# Altium schematic symbol library sn75lvds83b.SchLib: 1 symbol
Pins are listed as number, name and electrical type; pins without a type are passive.

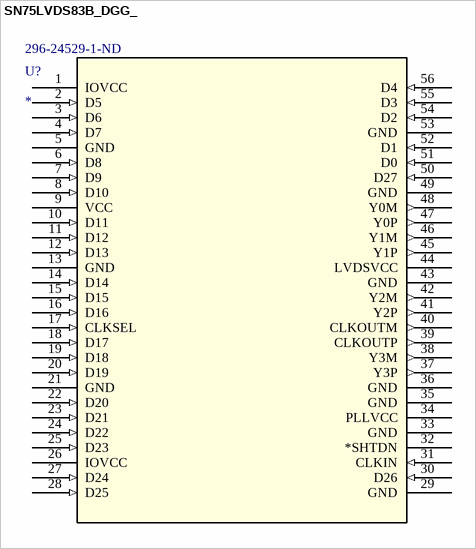
[diagram p0: symbol SN75LVDS83B_DGG_]

## SN75LVDS83B_DGG_
designator U?  Supplier Part Number 1: 296-24529-1-ND
Imported; Manufacturer: Texas Instruments; GENERIC_PART_NUMBER: SN75LVDS83B; Manufacturer_Part_Number: sn75lvds83b_dgg_56; INDUSTRY_STD_PKG_TYPE: TSSOP; FAMILY_NAME: FLATLINK (LVDS FOR LCD); PIN_COUNT: 56; PACKAGE_DESIGNATOR: DGG; Datasheet_URL: http://www.ti.com/lit/gpn/SN75LVDS83B; Vendor: Texas Instruments; Value: Value; Type: Type; RefDes: RefDes; Supplier 1: Digi-Key
footprint DGG56
pins: 1 IOVCC (power), 2 D5 (in), 3 D6 (in), 4 D7 (in), 5 GND (power), 6 D8 (in), 7 D9 (in), 8 D10 (in), 9 VCC (power), 10 D11 (in), 11 D12 (in), 12 D13 (in), 13 GND (power), 14 D14 (in), 15 D15 (in), 16 D16 (in), 17 CLKSEL (in), 18 D17 (in), 19 D18 (in), 20 D19 (in), 21 GND (power), 22 D20 (in), 23 D21 (in), 24 D22 (in), 25 D23 (in), 26 IOVCC (power), 27 D24 (in), 28 D25 (in), 29 GND (power), 30 D26 (in), 31 CLKIN (in), 32 *SHTDN (power), 33 GND (power), 34 PLLVCC (power), 35 GND (power), 36 GND (power), 37 Y3P (out), 38 Y3M (out), 39 CLKOUTP (out), 40 CLKOUTM (out), 41 Y2P (out), 42 Y2M (out), 43 GND (power), 44 LVDSVCC (power), 45 Y1P (out), 46 Y1M (out), 47 Y0P (out), 48 Y0M (out), 49 GND (power), 50 D27 (in), 51 D0 (in), 52 D1 (in), 53 GND (power), 54 D2 (in), 55 D3 (in), 56 D4 (in)